# Altium schematic symbol library MOSFET.SchLib: 7 symbols
Pins are listed as number, name and electrical type; pins without a type are passive.

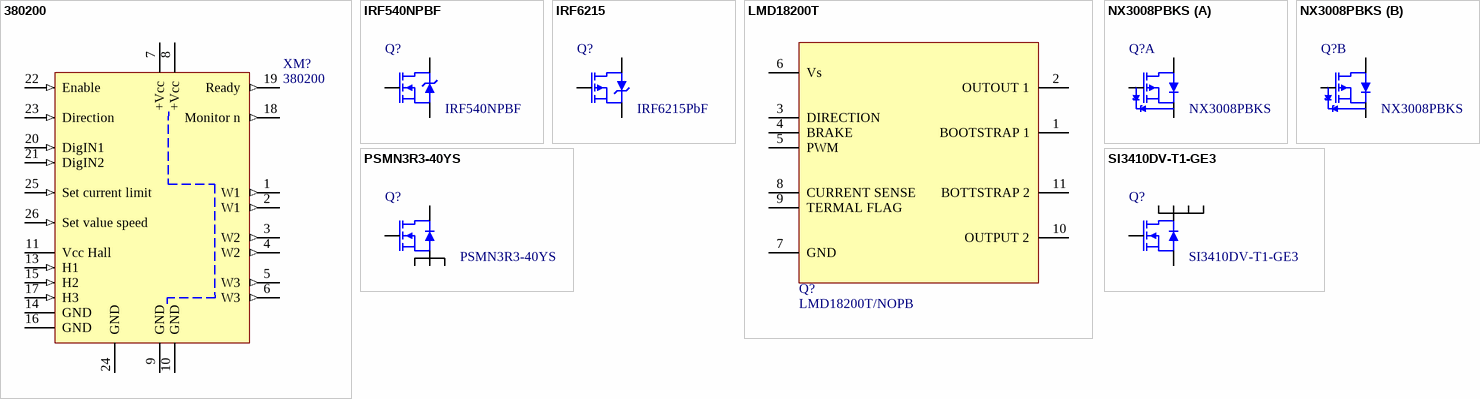
[diagram p0: symbols 380200 to SI3410DV-T1-GE3]

## 380200
designator XM?
DEC Module 50/5, amplificateur EC 1 Q 50 V / 5 A, régulation de vitesse, module OEM; Manufacturer: Maxon Motor; Manufacturer Part Number: 380200; ComponentLink1URL: http://www.maxonmotor.fr/medias/sys_master/root/8816547528734/380200-Notice-dUtilisation-Fr.pdf; ComponentLink1Description: http://www.maxonmotor.fr/medias/sys_master/root/8816547528734/380200-Notice-dUtilisation-Fr.pdf
footprint 380200 (MAXON)
pins: 1 W1 (out), 2 W1 (out), 3 W2 (out), 4 W2 (out), 5 W3 (out), 6 W3 (out), 7 +Vcc (power), 8 +Vcc (power), 9 GND (power), 10 GND (power), 11 Vcc Hall (power), 12 nc hidden, 13 H1 (in), 14 GND (power), 15 H2 (in), 16 GND (power), 17 H3 (in), 18 Monitor n (out), 19 Ready (out), 20 DigIN1 (in), 21 DigIN2 (in), 22 Enable (in), 23 Direction (in), 24 GND (power), 25 Set current limit (in), 26 Set value speed (in)

## IRF540NPBF
designator Q?
MOSFET N 100V 33A TO220; Manufacturer: INTERNATIONAL RECTIFIER; Supplier 1: Farnell; Supplier Part Number 1: 8648298; Manufacturer Part Number: IRF540NPBF; ComponentLink1URL: http://www.irf.com/product-info/models/SPICE/irf540n.spi; ComponentLink1Description: Datasheet
footprint TO-220AB
pins: 1 G, 2 D, 3 S

## IRF6215
designator Q?, comment IRF6215PbF
MOSFET P 150V 13A TO-220; Manufacturer: Infineon; ComponentLink1Description: Datasheet; ComponentLink1URL: https://www.infineon.com/dgdl/irf6215pbf.pdf?fileId=5546d462533600a4015355e44ca219d0; Manufacturer Part Number: IRF6215PbF; Supplier 1: Farnell; Supplier Part Number 1: 1013514
footprint TO-220AB
pins: 1 G, 2 D, 3 S

## LMD18200T
designator Q?, comment LMD18200T/NOPB
DRIVER MOTOR BIPLR 12-55V TO220-11; Manufacturer: TEXAS INSTRUMENTS; Supplier 1: Farnell; Manufacturer Part Number: LMD18200T/NOPB; ComponentLink1Description: Datasheet; ComponentLink1URL: http://www.ti.com/lit/ds/symlink/lmd18200.pdf?HQS=TI-null-null-digikeymode-df-pf-null-wwe&ts=1590940404428; Supplier Part Number 1: 1468979
footprint LMD18200T
pins: 1 BOOTSTRAP 1, 2 OUTOUT 1, 3 DIRECTION, 4 BRAKE, 5 PWM, 6 Vs, 7 GND, 8 CURRENT SENSE, 9 TERMAL FLAG, 10 OUTPUT 2, 11 BOTTSTRAP 2

## NX3008PBKS
designator Q?
MOSFET P DUAL 30V 200MA SOT363; Manufacturer: NEXPERIA; Manufacturer Part Number: NX3008PBKS; ComponentLink1URL: http://www.farnell.com/datasheets/1508395.pdf; ComponentLink1Description: Datasheet; Supplier 1: Farnell; Supplier Part Number 1: 2069548
footprint SOT65P210X110-6N (SOT23, 6-Leads, Body 2,00x2,10mm, Pitch 0,65mm, IPC Medium Density)
part A pins: 1 S1, 2 G1, 6 D1
part B pins: 3 D2, 4 S2, 5 G2

## PSMN3R3-40YS
designator Q?
MOSFET N 40V 100A LFPAK; Manufacturer: NEXPERIA; Manufacturer Part Number: PSMN3R3-40YS; ComponentLink1URL: http://www.farnell.com/datasheets/1230735.pdf; ComponentLink1Description: Datasheet; Supplier 1: Farnell; Supplier Part Number 1: 1845655
footprint LFPAK (SOT669) (SOT669 (wave soldering) https://goo.gl/6IFySL)
pins: 1 S, 2 S, 3 S, 4 G, 5 D

## SI3410DV-T1-GE3
designator Q?
MOSFET N 30V 8A 6-TSOP; Manufacturer: Vishay Siliconix; Supplier 1: Farnell; Supplier Part Number 1: 2454803; Manufacturer Part Number: SI3410DV-T1-GE3; ComponentLink1URL: http://www.vishay.com/docs/69254/si3410dv.pdf; ComponentLink1Description: Datasheet
footprint TSOP95P280X110-6N (TSOP, 6-Leads, Body 3,03x1,63mm, Pitch 0,95mm, IPC Medium Density)
pins: 1 D, 2 D, 3 G, 4 S, 5 D, 6 D